# EAGLE library part BQ24630 (library custom)
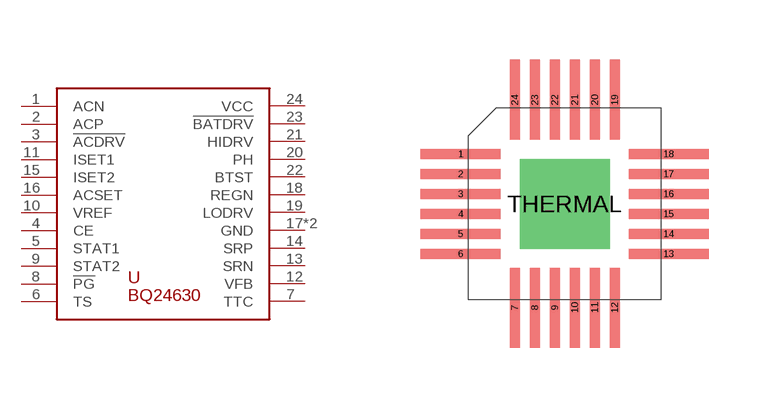
[diagram p0: symbol with the pads of QFN-24; footprint QFN-24]

Designator prefix -

## BQ24630  [QFN-24]
1  ACN
2  ACP
3  !ACDRV!
4  CE
5  STAT1
6  TS
7  TTC
8  !PG!
9  STAT2
10  VREF
11  ISET1
12  VFB
13  SRN
14  SRP
15  ISET2
16  ACSET
17  GND
18  REGN
19  LODRV
20  PH
21  HIDRV
22  BTST
23  !BATDRV!
24  VCC
THERMAL  GND

## Footprint QFN-24 (pad centres in mm)
smd 2 x 0.25: 1 -2.6,1.25; 2 -2.6,0.75; 3 -2.6,0.25; 4 -2.6,-0.25; 5 -2.6,-0.75; 6 -2.6,-1.25; 13 2.6,-1.25; 14 2.6,-0.75; 15 2.6,-0.25; 16 2.6,0.25; 17 2.6,0.75; 18 2.6,1.25
smd 0.25 x 2: 7 -1.25,-2.6; 8 -0.75,-2.6; 9 -0.25,-2.6; 10 0.25,-2.6; 11 0.75,-2.6; 12 1.25,-2.6; 19 1.25,2.6; 20 0.75,2.6; 21 0.25,2.6; 22 -0.25,2.6; 23 -0.75,2.6; 24 -1.25,2.6
drill 1.5 pad 1.93 square: THERMAL 0,0